# EAGLE library part LTC1153CS8 (library ISS-Notify)
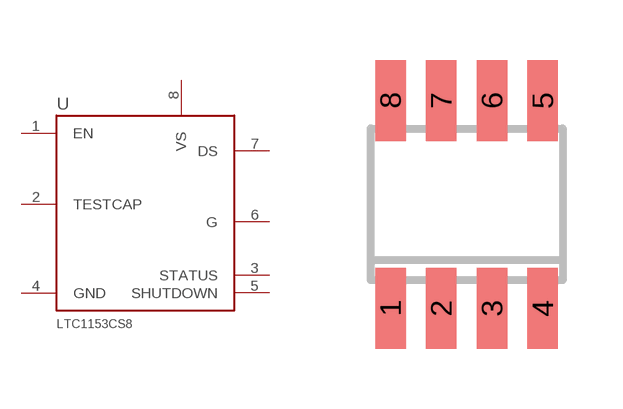
[diagram p8: symbol with the pads of SO-8; footprint SO-8]

Designator prefix U

## LTC1153CS8  [SO-8]
1  EN
2  TESTCAP
3  STATUS
4  GND
5  SHUTDOWN
6  G
7  DS
8  VS

## Footprint SO-8 (pad centres in mm)
smd 0.762 x 2.032: 1 -1.905,-2.727; 2 -0.635,-2.727; 3 0.635,-2.727; 4 1.905,-2.727; 5 1.905,2.473; 6 0.635,2.473; 7 -0.635,2.473; 8 -1.905,2.473